# Altium schematic symbol library Multiplexer.SchLib: 6 symbols
Pins are listed as number, name and electrical type; pins without a type are passive.

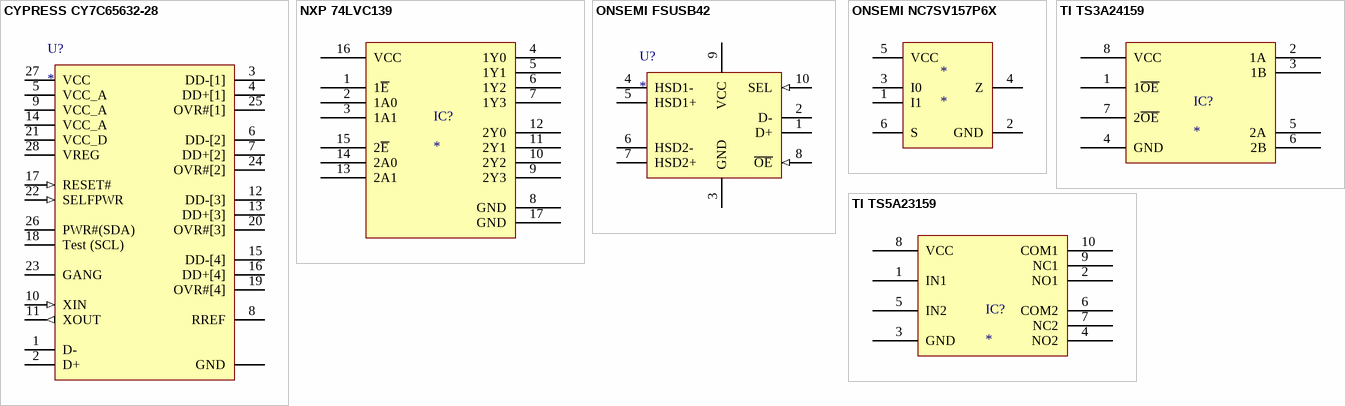
[diagram p0: symbols CYPRESS CY7C65632-28 to TI TS5A23159]

## CYPRESS CY7C65632-28
designator U?
IC CONTROLLER USB 28QFN; Supplier 1: Digi-Key; Supplier Part Number 1: 428-3156-2-ND
footprint CY7C65632-28 (Footprint not found)
pins: 1 D-, 2 D+, 3 DD-[1], 4 DD+[1], 5 VCC_A (power), 6 DD-[2], 7 DD+[2], 8 RREF, 9 VCC_A (power), 10 XIN (in), 11 XOUT (out), 12 DD-[3], 13 DD+[3], 14 VCC_A (power), 15 DD-[4], 16 DD+[4], 17 RESET# (in), 18 Test (SCL), 19 OVR#[4], 20 OVR#[3], 21 VCC_D (power), 22 SELFPWR (in), 23 GANG, 24 OVR#[2], 25 OVR#[1], 26 PWR#(SDA), 27 VCC (power), 28 VREG (power), 29 GND (power)

## NXP 74LVC139
designator IC?
pins: 1 1~{E}, 2 1A0, 3 1A1, 4 1Y0, 5 1Y1, 6 1Y2, 7 1Y3, 8 GND, 9 2Y3, 10 2Y2, 11 2Y1, 12 2Y0, 13 2A1, 14 2A0, 15 2~{E}, 16 VCC, 17 GND

## ONSEMI FSUSB42
designator U?
IC USB SWITCH DPDT 10UMLP; Supplier 1: Digi-Key; Supplier Part Number 1: FSUSB42UMXTR-ND
footprint FSUSB42 (10UMLP)
pins: 1 D+, 2 D-, 3 GND (power), 4 HSD1-, 5 HSD1+, 6 HSD2-, 7 HSD2+, 8 ~{OE} (in), 9 VCC (power), 10 SEL (in)

## ONSEMI NC7SV157P6X
designator *
pins: 1 I1, 2 GND, 3 I0, 4 Z, 5 VCC, 6 S

## TI TS3A24159
designator IC?
pins: 1 1~{OE}, 2 1A, 3 1B, 4 GND, 5 2A, 6 2B, 7 2~{OE}, 8 VCC

## TI TS5A23159
designator IC?
pins: 1 IN1, 2 NO1, 3 GND, 4 NO2, 5 IN2, 6 COM2, 7 NC2, 8 VCC, 9 NC1, 10 COM1